# Altium footprint library SparkFun-Connectors.PCBLIB: 305 footprints (part 11 of 20)
Each footprint in its own frame and in the unit in brackets; x right, y up, seen from the top. Pads: shape width x height; smd on the part's side, far side on the other; paste and mask are expansions set on the pad; w line width, h text height; cw(c..) or ccw(c..) is an arc to the next point about the centre after c.
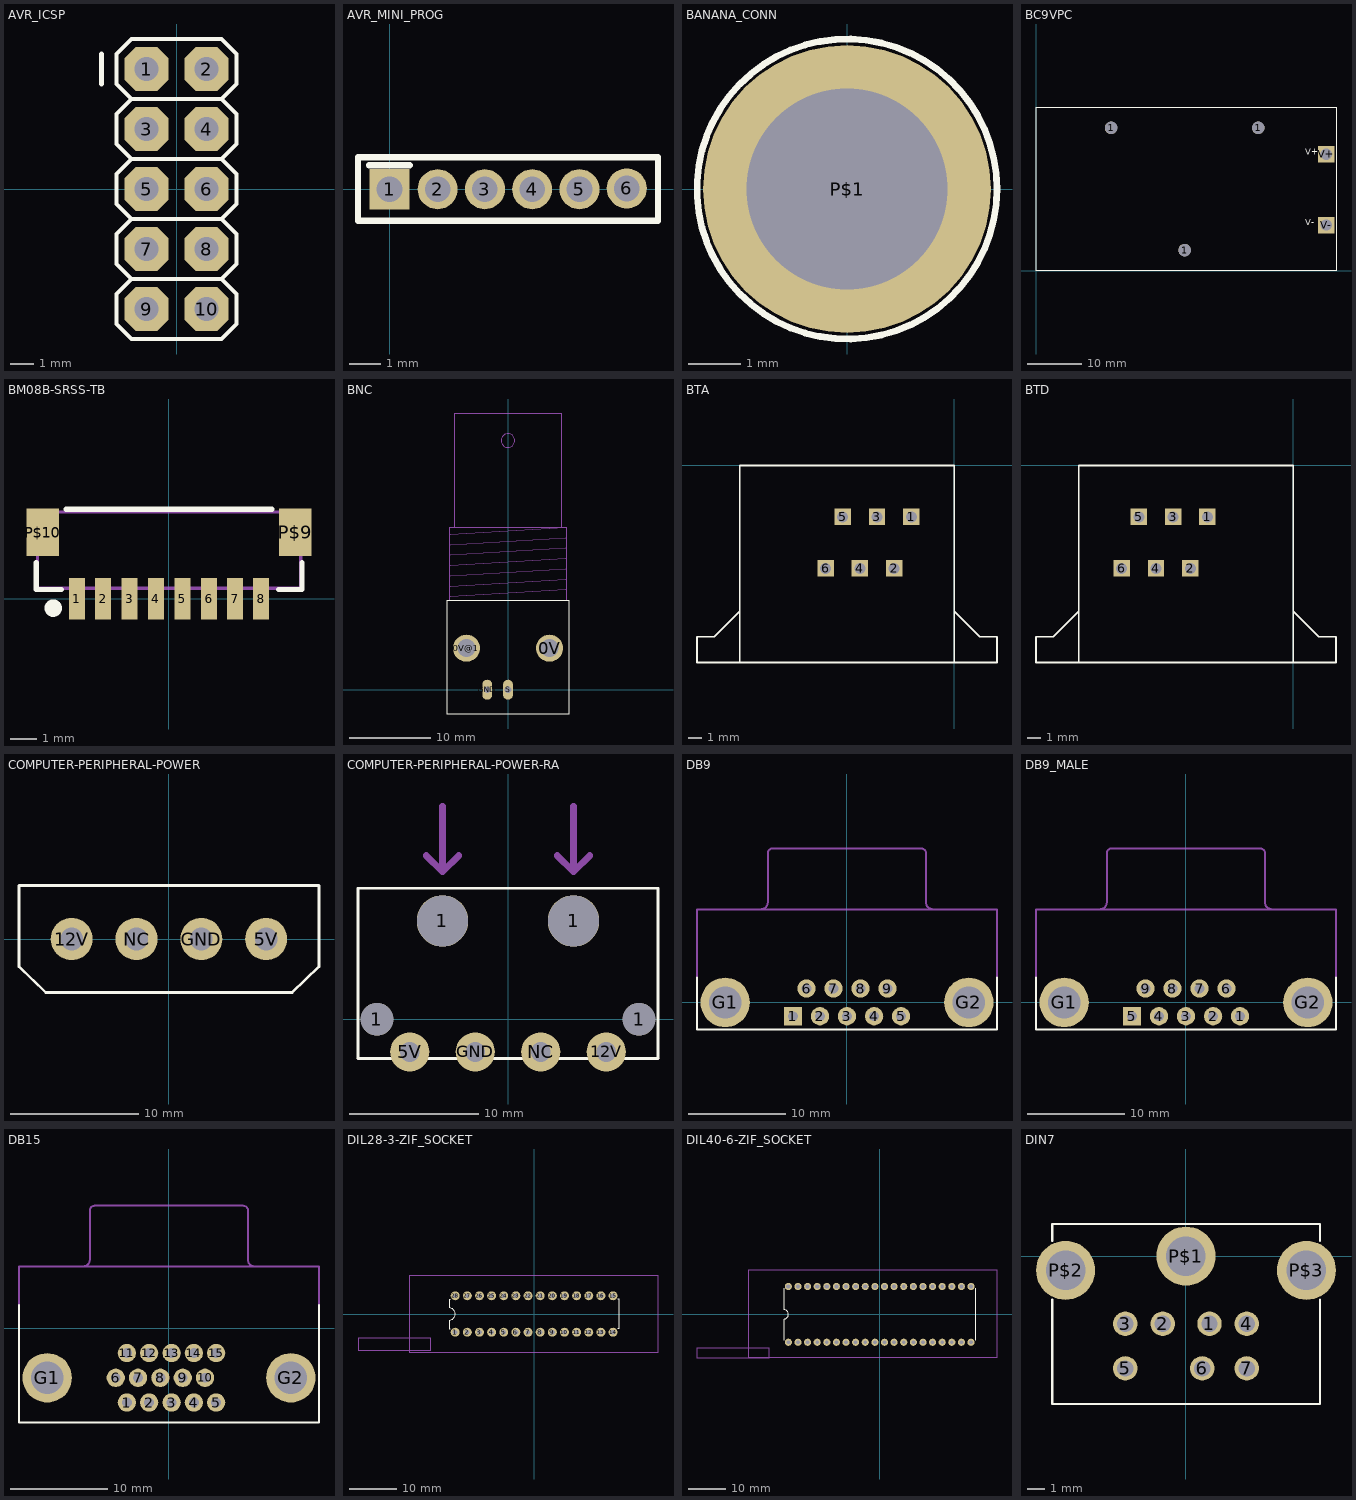
[diagram p10: the footprints below, top view; thin cyan lines are the x and y axes]

## AVR_ICSP [mil]
pads (10):
  oct 74x74 hole 40: 1(-50,200) 2(50,200) 3(-50,100) 4(50,100) 5(-50,0) 6(50,0) 7(-50,-100) 8(50,-100) 9(-50,-200) 10(50,-200)
Top Overlay:
  rectangle: -60,-10 -40,10
  lines w6: -75,-150 -100,-125 -100,-75 -75,-50 ; -75,-150 75,-150 ; -75,-150 -100,-175 -100,-225 -75,-250 75,-250 100,-225 100,-175 75,-150 ; -75,-50 -100,-25 -100,25 -75,50 ; -75,-50 75,-50 ; -75,50 -100,75 -100,125 -75,150 ; -75,50 75,50 ; -75,150 -100,175 -100,225 -75,250 75,250 100,225 100,175 75,150 ; -75,150 75,150 ; 75,-150 100,-125 100,-75 75,-50 ; 75,-50 100,-25 100,25 75,50 ; 75,50 100,75 100,125 75,150
  lines w8: -125,175 -125,225
Mechanical 16:
  rectangle: -60,190 -40,210
  rectangle: 40,190 60,210
  rectangle: 40,90 60,110
  rectangle: -60,90 -40,110
  rectangle: 40,-10 60,10
  rectangle: 40,-210 60,-190
  rectangle: -60,-210 -40,-190
  rectangle: -60,-110 -40,-90
  rectangle: 40,-110 60,-90

## AVR_MINI_PROG [mil]
pads (6):
  rect 50x50 hole 32: 1(0,0)
  round 50 hole 32: 2(60,0) 3(119,0) 4(178,0) 5(237,0) 6(296,1)
Top Overlay:
  lines w8: -25.59,30 25,30 ; -39.37,-39.37 -39.37,40 335,40 335,-39.37 -39.37,-39.37

## BANANA_CONN [mil]
pads (1):
  round 215 hole 150: P$1(0,0)
Top Overlay:
  circle w5: c0,0 r112

## BC9VPC [mil]
pads (5):
  round 90 hole 90: 1(540,1030) 1(1070,150) 1(1600,1030)
  rect 120x120 hole 80: V+(2090,840) V-(2090,330)
Top Overlay:
  lines w5: 0,0 0,1180 2160,1180 2160,0 0,0
  text "V+" at 1940,820 h77.5
  text "V-" at 1940,310 h77.5

## BM08B-SRSS-TB [mil]
pads (10):
  rect 24x62 smd: 1(-137.8,0) 2(-98.43,0) 3(-59.06,0) 4(-19.68,0) 5(20,0) 6(60,0) 7(99,0) 8(138,0)
  rect 48x71 smd: P$9(189,100) P$10(-188.98,100)
Top Overlay:
  circle w16: c-173.23,-13.78 r5
  lines w8: -198.82,54 -198.82,14 -161.42,14 ; -153.54,134 154,134 ; 164,14 199,14 199,54
Mechanical 16:
  lines w5: -196.85,16 -196.85,130 197,130 197,16 -196.85,16

## BNC [mil]
pads (4):
  round 130.5 hole 87: 0V(200,200) 0V@1(-200,200)
  oval 48x96 hole 32: GND(-100,0) S(0,0)
Top Overlay:
  lines w5: -295,-117 295,-117 295,428 -295,428 -295,-117
Mechanical 16:
  circle w5: c0,1200 r33
  lines w5: -280,428 -280,783 -260,783 ; -279,449 279,483 ; -279,499 279,533 ; -279,549 279,583 ; -279,599 279,633 ; -279,649 279,683 ; -279,699 279,733 ; -279,749 279,783 ; 280,428 280,783 279,783 ; -260,783 260,783 ; -260,783 -260,1328 260,1328 260,783 ; 260,783 279,783

## BTA [mil]
pads (6):
  rect 48x48 hole 32: 1(-125,-150) 2(-175,-300) 3(-225,-150) 4(-275,-300) 5(-325,-150) 6(-375,-300)
Top Overlay:
  lines w5: -625,-575 0,-575 ; -625,-575 -625,-425 ; -625,-575 -750,-575 -750,-500 -700,-500 -625,-425 ; -625,-425 -625,0 0,0 0,-425 ; 0,-575 0,-425 ; 0,-575 125,-575 125,-500 75,-500 0,-425

## BTD [mil]
pads (6):
  rect 48x48 hole 32: 1(-250,-150) 2(-300,-300) 3(-350,-150) 4(-400,-300) 5(-450,-150) 6(-500,-300)
Top Overlay:
  lines w5: -625,-575 0,-575 ; -625,-575 -625,-425 ; -625,-575 -750,-575 -750,-500 -700,-500 -625,-425 ; -625,-425 -625,0 0,0 0,-425 ; 0,-575 0,-425 ; 0,-575 125,-575 125,-500 75,-500 0,-425

## COMPUTER-PERIPHERAL-POWER [mil]
pads (4):
  round 130 hole 70: 5V(300,0) 12V(-300,0) GND(100,0) NC(-100,0)
Top Overlay:
  lines w8: -462.5,-85 -380,-165 380,-165 463,-85 463,165 -462.5,165 -462.5,-85

## COMPUTER-PERIPHERAL-POWER-RA [mil]
pads (8):
  round 100 hole 100: 1(-400,0) 1(400,0)
  round 157 hole 157: 1(-200,300) 1(200,300)
  round 120 hole 60: 5V(-300,-100) 12V(300,-100) GND(-100,-100) NC(100,-100)
Top Overlay:
  lines w8: -350,-120 -458,-120 -458,400 458,400 458,-120 350,-120 ; -250,-120 -150,-120 ; -50,-120 50,-120 ; 150,-120 250,-120
Mechanical 16:
  lines w8: -458,-120 458,-120
  lines w20: -250,500 -200,450 ; -200,650 -200,450 ; -150,500 -200,450 ; 150,500 200,450 ; 200,650 200,450 ; 250,500 200,450
  text "INSERT" at -120,525 h77.5

## DB9 [mil]
pads (11):
  rect 74x74 hole 40: 1(-218.11,-55.91)
  round 74 hole 40: 2(-109.06,-55.91) 3(0,-55.91) 4(110,-55.91) 5(219,-55.91) 6(-163.39,56) 7(-54.33,56) 8(55,56) 9(164,56)
  round 200 hole 130: G1(-492.13,0) G2(493,0)
Top Overlay:
  lines w8: -606.3,100 -606.3,-110.24 607,-110.24 607,100
Mechanical 16:
  lines w8: -606.3,101 -606.3,375 607,375 607,100 ; -345,378 ccw(c-345,403) -320,403 -320,603 cw(c-300,603) -300,623 300,623 cw(c300,603) 320,603 320,403 ccw(c345,403) 345,378

## DB9_MALE [mil]
pads (11):
  round 74 hole 40: 1(219,-55.91) 2(110,-55.91) 3(0,-55.91) 4(-109.06,-55.91) 6(164,56) 7(55,56) 8(-54.33,56) 9(-163.39,56)
  rect 74x74 hole 40: 5(-218.11,-55.91)
  round 200 hole 130: G1(-492.13,0) G2(493,0)
Top Overlay:
  lines w8: -606.3,100 -606.3,-110.24 607,-110.24 607,100
Mechanical 16:
  lines w8: -606.3,101 -606.3,375 607,375 607,100 ; -345,378 ccw(c-345,403) -320,403 -320,603 cw(c-300,603) -300,623 300,623 cw(c300,603) 320,603 320,403 ccw(c345,403) 345,378

## DB15 [mil]
pads (17):
  round 74 hole 40: 1(-170.08,-300) 2(-79.92,-300) 3(11,-300) 4(101,-300) 5(191,-300) 6(-214.96,-200) 7(-124.8,-200) 8(-34.65,-200) 9(56,-200) 10(146,-200) 11(-170.08,-100) 12(-79.92,-100) 13(11,-100) 14(101,-100) 15(191,-100)
  round 200 hole 130: G1(-492.13,-200) G2(493,-200)
Top Overlay:
  lines w8: -606.3,94 -606.3,-379.92 607,-379.92 607,94
Mechanical 16:
  lines w8: -606.3,94 -606.3,250 607,250 607,94 ; -345,251 ccw(c-345,276) -320,276 -320,476 cw(c-300,476) -300,496 300,496 cw(c300,476) 320,476 320,276 ccw(c345,276) 345,251

## DIL28-3-ZIF_SOCKET [mil]
pads (28):
  round 74 hole 40: 1(-650,-150) 2(-550,-150) 3(-450,-150) 4(-350,-150) 5(-250,-150) 6(-150,-150) 7(-50,-150) 8(50,-150) 9(150,-150) 10(250,-150) 11(350,-150) 12(450,-150) 13(550,-150) 14(650,-150) 15(650,150) 16(550,150) 17(450,150) 18(350,150) 19(250,150) 20(150,150) 21(50,150) 22(-50,150) 23(-150,150) 24(-250,150) 25(-350,150) 26(-450,150) 27(-550,150) 28(-650,150)
Top Overlay:
  lines w8: -690,-120 -700,-120 -700,-50 ccw(c-700,0) -700,50 -700,120 -690,120 ; 690,-120 700,-120 700,120 690,120
Mechanical 16:
  lines w5: -1027.99,-314.96 1020,-314.96 1020,315 -1027.99,315 -1027.99,-314.96
  lines w10: -1450,-300 -1450,-200 -850,-200 -850,-300 -1450,-300

## DIL40-6-ZIF_SOCKET [mil]
pads (40):
  round 74 hole 40: 1(-950,-290) 2(-850,-290) 3(-750,-290) 4(-650,-290) 5(-550,-290) 6(-450,-290) 7(-350,-290) 8(-250,-290) 9(-150,-290) 10(-50,-290) 11(50,-290) 12(150,-290) 13(250,-290) 14(350,-290) 15(450,-290) 16(550,-290) 17(650,-290) 18(750,-290) 19(850,-290) 20(950,-290) 21(950,290) 22(850,290) 23(750,290) 24(650,290) 25(550,290) 26(450,290) 27(350,290) 28(250,290)
  round 74 hole 44: 29(150,290) 30(50,290) 31(-50,290) 32(-150,290) 33(-250,290) 34(-350,290) 35(-450,290) 36(-550,290) 37(-650,290) 38(-750,290) 39(-850,290) 40(-950,290)
Top Overlay:
  lines w8: -1000,-270 -1000,-50 ccw(c-1000,0) -1000,50 -1000,270 ; 1000,-270 1000,270
Mechanical 16:
  lines w10: -1900,-450 -1900,-350 -1150,-350 -1150,-450 -1900,-450 ; -1368.58,-448.07 1220,-448.07 1220,458 -1368.58,458 -1368.58,-448.07

## DIN7 [mil]
pads (10):
  round 54 hole 36: 1(52,-149.61) 2(-51.18,-149.61) 3(-133.86,-149.61) 4(134,-149.61) 5(-133.86,-248.03) 6(36,-248.03) 7(134,-248.03)
  round 130.5 hole 87: P$1(0,0) P$2(-265.75,-31.5) P$3(266,-31.5)
Top Overlay:
  lines w5: -295.28,-96.46 -295.28,-326.77 296,-326.77 296,-96.46 ; -295.28,34 -295.28,71 296,71 296,34